# Altium schematic symbol library Resistors.SchLib: 26 symbols
Pins are listed as number, name and electrical type; pins without a type are passive.

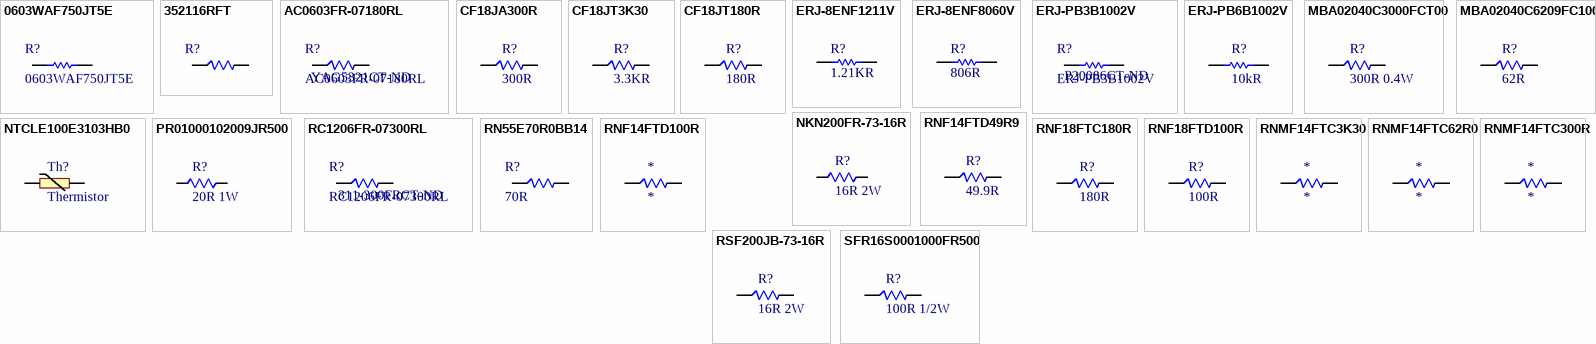
[diagram p0: symbols 0603WAF750JT5E to SFR16S0001000FR500]

## 0603WAF750JT5E
designator R?
±1% ±200ppm/℃ 75Ω 0.1W 0603 Chip Resistor - Surface Mount ROHS; Manufacturer 1: Panasonic; Manufacturer Part Number 1: ERJ-PB3B1002V; Resistance: 10kR; Tolerance: 0.1%; Max Power Dissipation: 200mW; Temperature Coefficient: 50ppm/°C; RoHS: Yes; Category: Chip SMD Resistors; Stock 1: 3; Pricing 1: 1=0.23000, 10=0.19100, 25=0.13920, 50=0.10100, 100=0.07480, 250=0.05744, 500=0.04524, 1000=0.03132 (USD); Case/Package: 0603; Case Code (Metric): 1608; Case Code (Imperial): 0603; Min Operating Temperature: -55°C; Max Operating Temperature: 155°C; Packaging: Tape and Reel; Resistor Type: Thick Film; Number of Terminations: 2; Features: Automotive AEC-Q200; Length: 0.063inch; Width: 0.032inch; Height - Seated (Max): 0.022inch; ComponentLink1URL: https://industrial.panasonic.com/sa/system/files/data/download/catalog/id_fixed-resistors_e_2.pdf?src-supplier=Digi-Key; ComponentLink1Description: https://industrial.panasonic.com/sa/system/files/data/download/catalog/id_fixed-resistors_e_2.pdf?src-supplier=Digi-Key; ComponentLink2URL: https://industrial.panasonic.com/cdbs/www-data/pdf/RDM0000/DMM0000COL5.pdf?src-supplier=Digi-Key; ComponentLink2Description: https://industrial.panasonic.com/cdbs/www-data/pdf/RDM0000/DMM0000COL5.pdf?src-supplier=Digi-Key
footprint FP-AC0603-0_55-MFG
pins: 1, 2

## 352116RFT
designator R?  (value not drawn)
Res Thick Film 2512 16 Ohm 1% 2W ±100ppm/C Pad SMD Automotive T/R; Manufacturer 1: TE Connectivity; Resistance: 16R; Temperature Coefficient: 100ppm/°C; Voltage Rating: 250V; Number of Resistors: 1; Supplier 1: Digi-Key; Manufacturer Part Number 1: 352116RFT; RoHS: Yes; Category: Chip SMD Resistors; Stock 1: 79023; Pricing 1: 1=0.83000, 10=0.61200, 100=0.35610, 1000=0.19972 (USD); Mount: Surface Mount; Case/Package: 2512; Case Code (Metric): 6432; Case Code (Imperial): 2512; Min Operating Temperature: -55°C; Max Operating Temperature: 155°C; Tolerance: 1%; Packaging: Tape and Reel; Resistor Type: Thick Film,Power resistor; Number of Terminations: 2; Power Rating: 2W; Termination: Solder; Voltage Rating (DC): 250V; Technology: THICK FILM; Series: 3521; Resistance Tolerance: 1%; Length: 6.3mm; Height: 0.55mm; Depth: 3.2mm; RoHS Compliant: Yes; REACH SVHC: No SVHC; ELV: Compliant; ComponentLink1URL: https://datasheet.ciiva.com/25610/0900766b81096b90-25610624.pdf?src-supplier=RSComponents; ComponentLink1Description: https://datasheet.ciiva.com/25610/0900766b81096b90-25610624.pdf?src-supplier=RSComponents; ComponentLink2URL: https://datasheet.ciiva.com/46391/1610601-46391497.pdf?src-supplier=Element14; ComponentLink2Description: https://datasheet.ciiva.com/46391/1610601-46391497.pdf?src-supplier=Element14; ComponentLink3URL: https://datasheet.ciiva.com/7657/1610601-7657546.pdf?src-supplier=Element14; ComponentLink3Description: https://datasheet.ciiva.com/7657/1610601-7657546.pdf?src-supplier=Element14; Supplier Part Number 1: A115989CT-ND
footprint FP-ERJ1TR-IPC_A
pins: 1, 2

## AC0603FR-07180RL
designator R?  Supplier Part Number 1: YAG5321CT-ND
Res Thick Film 0603 180 Ohm 1% 0.1W(1/10W) ±100ppm/C Pad SMD Automotive T/R; Manufacturer 1: Yageo; Power Rating: 100mW; Resistance: 180R; Voltage Rating: 50V; Temperature Coefficient: 100ppm/°C; Supplier 1: Digi-Key; Manufacturer Part Number 1: AC0603FR-07180RL; RoHS: Yes; Category: Chip SMD Resistors; Stock 1: 513; Pricing 1: 1=0.10000, 10=0.02900, 100=0.01170, 1000=0.00527, 2500=0.00458 (USD); Case/Package: 0603; Case Code (Imperial): 0603; Case Code (Metric): 1608; Weight: 7.1E-05oz; Min Operating Temperature: -55°C; Max Operating Temperature: 155°C; Packaging: Tape and Reel; Tolerance: 1%; Resistor Type: Thick Film; Number of Terminations: 2; Termination: SMD/SMT; Max Power Dissipation: 100mW; Features: Moisture Resistant,Automotive AEC-Q200; Series: AC; Length: 0.063inch; Width: 0.031inch; Height: 0.022inch; Lead Free: Lead Free; RoHS Compliant: Yes; ComponentLink1URL: https://datasheet.ciiva.com/12576/pyu-ac-51-rohs-l-2-12576606.pdf?src-supplier=Mouser; ComponentLink1Description: https://datasheet.ciiva.com/12576/pyu-ac-51-rohs-l-2-12576606.pdf?src-supplier=Mouser
footprint FP-AC0603-0_55-MFG
pins: 1, 2

## CF18JA300R
designator R?, comment 300R
RES 300 OHM 1/8W 5% AXIAL; Manufacturer 1: Stackpole Electronics; Manufacturer Part Number 1: CF18JA300R; Max Power Dissipation: 125mW; Temperature Coefficient: -400ppm/°C; Supplier 1: Digi-Key; RoHS: Yes; Category: Through-Hole Resistors; Stock 1: 74; Pricing 1: 1=0.10000, 10=0.04500, 25=0.03240, 50=0.02480, 100=0.01830, 250=0.01396, 500=0.01116, 1000=0.00822 (USD); Mount: Through Hole,Axial; Case/Package: Axial; Contact Plating: Tin,Matte; Min Operating Temperature: -55°C; Max Operating Temperature: 155°C; Resistor Type: Carbon Film; Resistance: 300R; Tolerance: 5%; Package Quantity: 5000; Packaging: Tape and Reel; Number of Terminations: 2; Features: Flame Retardant Coating; Diameter: 1.7mm; Length: 0.13inch; Radiation Hardening: No; ComponentLink1URL: https://www.seielect.com/catalog/SEI-CF_CFM.pdf?src-supplier=Avnet; ComponentLink1Description: https://www.seielect.com/catalog/SEI-CF_CFM.pdf?src-supplier=Avnet; ComponentLink2URL: https://www.seielect.com/Catalog/SEI-CF_CFM.pdf?src-supplier=Digi-Key; ComponentLink2Description: https://www.seielect.com/Catalog/SEI-CF_CFM.pdf?src-supplier=Digi-Key
footprint Th300R
pins: 1, 2

## CF18JT3K30
designator R?, comment 3.3KR
RES 3.3K OHM 1/8W 5% AXIAL; Manufacturer 1: Stackpole Electronics; Manufacturer Part Number 1: CFM14JT3K30; Temperature Coefficient: -400ppm/°C; Max Power Dissipation: 250mW; Supplier 1: Digi-Key; Stock 1: 33623; Pricing 1: 1=0.10000, 10=0.04100, 25=0.03000, 50=0.02280, 100=0.01690, 250=0.01288, 500=0.01030, 1000=0.00758 (USD); RoHS: Yes; Mount: Through Hole,Axial; Case/Package: Conformal; Contact Plating: Tin,Matte; Min Operating Temperature: -55°C; Max Operating Temperature: 155°C; Package Quantity: 1; Resistance: 3.3kR; Tolerance: 5%; Packaging: Tape and Reel; Composition: Carbon Film; Number of Terminations: 2; Termination: Axial; Military Standard: Not; Features: Flame Retardant Coating; Diameter: 1.7mm; Length: 3.3mm; Radiation Hardening: No; Supplier Part Number 1: S3.3KQCT-ND; ComponentLink1Description: Digikey; ComponentLink1URL: https://www.digikey.com/en/products/detail/stackpole-electronics-inc/CF18JT3K30/1741665; ComponentLink2Description: Datasheet; ComponentLink2URL: https://www.seielect.com/catalog/sei-cf_cfm.pdf
footprint Th3.3KR
pins: 1, 2

## CF18JT180R
designator R?, comment 180R
RES 180 OHM 1/8W 5% AXIAL; Manufacturer 1: Stackpole Electronics; Manufacturer Part Number 1: CF18JT180R; Temperature Coefficient: -400ppm/°C; Max Power Dissipation: 125mW; Supplier 1: Digi-Key; RoHS: Yes; Category: Through-Hole Resistors; Stock 1: 17216; Pricing 1: 1=0.10000, 10=0.04500, 25=0.03240, 50=0.02480, 100=0.01830, 250=0.01396, 500=0.01116, 1000=0.00822 (USD); Mount: Through Hole,Axial; Case/Package: Conformal; Contact Plating: Tin,Matte; Min Operating Temperature: -55°C; Max Operating Temperature: 155°C; Package Quantity: 1; Resistance: 180R; Tolerance: 5%; Packaging: Tape and Reel; Resistor Type: Carbon Film; Number of Terminations: 2; Termination: Axial; Features: Flame Retardant Coating; Series: CF; Construction: Cylindrical; Diameter: 1.7mm; Length: 3.3mm; Radiation Hardening: No; Military Standard: Not; Lead Free: Lead Free; RoHS Compliant: Yes; ComponentLink1URL: http://components.arrow.com/part/dataview/53468719S47843N1174?src-supplier=Arrow+Electronics; ComponentLink1Description: http://components.arrow.com/part/dataview/53468719S47843N1174?src-supplier=Arrow+Electronics; ComponentLink2URL: https://www.seielect.com/Catalog/SEI-CF_CFM.pdf?src-supplier=Digi-Key; ComponentLink2Description: https://www.seielect.com/Catalog/SEI-CF_CFM.pdf?src-supplier=Digi-Key; ComponentLink3URL: https://www.seielect.com/catalog/SEI-CF_CFM.pdf?src-supplier=Avnet; ComponentLink3Description: https://www.seielect.com/catalog/SEI-CF_CFM.pdf?src-supplier=Avnet
footprint Th3.3KR
pins: 1, 2

## ERJ-8ENF1211V
designator R?, comment 1.21KR
RES 1.21KR 1% 0805 1/4W; Part Number: ERJ-8ENF1211V; Manufacturer: Panasonic
footprint RESC3216X70X50NL05T20 (Chip Resistor, 2-Leads, Body 3.20x1.60mm, IPC Medium Density)
pins: 1, 2
1 alternate drawing of the same symbol

## ERJ-8ENF8060V
designator R?, comment 806R
RES 806R 1% 0805 1/4W; Part Number: ERJ-8ENF8060V; Manufacturer: Panasonic
footprint RESC3216X70X50NL05T20 (Chip Resistor, 2-Leads, Body 3.20x1.60mm, IPC Medium Density)
pins: 1, 2
1 alternate drawing of the same symbol

## ERJ-PB3B1002V
designator R?  Supplier Part Number 1: P20086CT-ND
Res Thick Film 0603 10K Ohm 0.1% 0.2W(1/5W) ±50ppm/°C Pad SMD Automotive T/R; Manufacturer 1: Panasonic; Resistance: 10kR; Max Power Dissipation: 200mW; Supplier 1: Digi-Key; Manufacturer Part Number 1: ERJ-PB3B1002V; RoHS: Yes; Category: Chip SMD Resistors; Stock 1: 3; Pricing 1: 1=0.23000, 10=0.19100, 25=0.13920, 50=0.10100, 100=0.07480, 250=0.05744, 500=0.04524, 1000=0.03132 (USD); Case/Package: 0603; Case Code (Metric): 1608; Case Code (Imperial): 0603; Min Operating Temperature: -55°C; Max Operating Temperature: 155°C; Packaging: Tape and Reel; Resistor Type: Thick Film; Number of Terminations: 2; Tolerance: 0.1%; Temperature Coefficient: 50ppm/°C; Features: Automotive AEC-Q200; Length: 0.063inch; Width: 0.032inch; Height - Seated (Max): 0.022inch; ComponentLink1URL: https://industrial.panasonic.com/sa/system/files/data/download/catalog/id_fixed-resistors_e_2.pdf?src-supplier=Digi-Key; ComponentLink1Description: https://industrial.panasonic.com/sa/system/files/data/download/catalog/id_fixed-resistors_e_2.pdf?src-supplier=Digi-Key; ComponentLink2URL: https://industrial.panasonic.com/cdbs/www-data/pdf/RDM0000/DMM0000COL5.pdf?src-supplier=Digi-Key; ComponentLink2Description: https://industrial.panasonic.com/cdbs/www-data/pdf/RDM0000/DMM0000COL5.pdf?src-supplier=Digi-Key
footprint FP-AC0603-0_55-MFG
pins: 1, 2

## ERJ-PB6B1002V
designator R?, comment 10kR
RES SMD 10K OHM 0.1% 1/4W 0805; Manufacturer 1: Panasonic; Manufacturer Part Number 1: ERJ-PB6B1002V; Max Power Dissipation: 250mW; Temperature Coefficient: 50ppm/°C; Supplier 1: Digi-Key; RoHS: Yes; Category: Chip SMD Resistors; Stock 1: 40490; Pricing 1: 1=0.33000, 10=0.27800, 25=0.20240, 50=0.14680, 100=0.10880, 250=0.08348, 500=0.06578, 1000=0.04554 (USD); Case/Package: 0805; Case Code (Metric): 2012; Case Code (Imperial): 0805; Min Operating Temperature: -55°C; Max Operating Temperature: 155°C; Features: Automotive AEC-Q200; Packaging: Tape and Reel; Resistance: 10kR; Resistor Type: Thick Film; Number of Terminations: 2; Tolerance: 0.1%; Length: 0.079inch; Width: 0.049inch; Height - Seated (Max): 0.028inch; ComponentLink1URL: https://industrial.panasonic.com/sa/system/files/data/download/catalog/id_fixed-resistors_e_2.pdf?src-supplier=Digi-Key; ComponentLink1Description: https://industrial.panasonic.com/sa/system/files/data/download/catalog/id_fixed-resistors_e_2.pdf?src-supplier=Digi-Key; ComponentLink2URL: https://industrial.panasonic.com/cdbs/www-data/pdf/RDM0000/DMM0000COL5.pdf?src-supplier=Digi-Key; ComponentLink2Description: https://industrial.panasonic.com/cdbs/www-data/pdf/RDM0000/DMM0000COL5.pdf?src-supplier=Digi-Key
footprint RESC3216X70X50NL05T20 (Chip Resistor, 2-Leads, Body 3.20x1.60mm, IPC Medium Density)
pins: 1, 2

## MBA02040C3000FCT00
designator R?, comment 300R 0.4W
Resistor 300 Ohm 0.4 W  ±  1 %, MBA02040C3000FCT00, Vishay; Manufacturer 1: Vishay BCcomponents; Tolerance: 1%; Temperature Coefficient: 50ppm/°C; Max Power Dissipation: 400mW; Supplier 1: Digi-Key; Manufacturer Part Number 1: MBA02040C3000FCT00; RoHS: Yes; Category: Through-Hole Resistors; Stock 1: 4691; Pricing 1: 1=0.22000, 10=0.18300, 25=0.13280, 50=0.09620, 100=0.07140, 250=0.05480, 500=0.04316, 1000=0.02988 (USD); Mount: Through Hole; Case/Package: Conformal; Contact Plating: Tin; Min Operating Temperature: -55°C; Max Operating Temperature: 155°C; Resistance: 300R; Resistor Type: Metal Film; Packaging: Tape and Reel; Package Quantity: 5000; Number of Terminations: 2; Termination: Axial; Features: Automotive AEC-Q200; Series: MBA 0204 - Professional; Construction: Cylindrical; Diameter: 1.6mm; Length: 3.6mm; Radiation Hardening: No; Military Standard: Not; Lead Free: Lead Free; RoHS Compliant: Yes; ComponentLink1URL: https://datasheet.ciiva.com/26315/ngmbx-sma-data-e-26315420.pdf?src-supplier=Distrelec; ComponentLink1Description: https://datasheet.ciiva.com/26315/ngmbx-sma-data-e-26315420.pdf?src-supplier=Distrelec
footprint Th300R
pins: 1, 2

## MBA02040C6209FC100
designator R?, comment 62R
Vishay MBA0204 Series Axial Thin Film Resistor 62 1% 0.4W 50ppm/C; Manufacturer 1: Vishay BCcomponents; Manufacturer Part Number 1: MBA02040C6209FC100; Temperature Coefficient: 50ppm/°C; Max Power Dissipation: 400mW; Supplier 1: Digi-Key; RoHS: Yes; Category: Through-Hole Resistors; Stock 1: 1794; Pricing 1: 1=0.40000, 10=0.28600, 100=0.11450 (USD); Mount: Through Hole; Case/Package: Conformal; Contact Plating: Tin; Min Operating Temperature: -55°C; Max Operating Temperature: 155°C; Resistor Type: Thin Film; Resistance: 62R; Tolerance: 1%; Number of Terminations: 2; Termination: Axial; Power Rating: 400mW; Features: Automotive AEC-Q200; Packaging: Tape and Reel; Diameter: 1.6mm; Length: 3.6mm; Radiation Hardening: No; Lead Free: Lead Free; Military Standard: Not; ComponentLink1URL: http://components.arrow.com/part/dataview/0323_04156409?src-supplier=Arrow+Europe; ComponentLink1Description: http://components.arrow.com/part/dataview/0323_04156409?src-supplier=Arrow+Europe; ComponentLink2URL: http://www.vishay.com/docs/28766/28766.pdf?src-supplier=Avnet+Europe; ComponentLink2Description: http://www.vishay.com/docs/28766/28766.pdf?src-supplier=Avnet+Europe; ComponentLink3URL: http://www.vishay.com/docs/28766/28766.pdf?src-supplier=Avnet; ComponentLink3Description: http://www.vishay.com/docs/28766/28766.pdf?src-supplier=Avnet
footprint Th62R
pins: 1, 2

## NKN200FR-73-16R
designator R?, comment 16R 2W
RES 16 OHM 2W 1% AXIAL; Manufacturer 1: Yageo; Manufacturer Part Number 1: NKN200FR-73-16R; Temperature Coefficient: 300ppm/°C; Supplier 1: Digi-Key; RoHS: Yes; Category: Through-Hole Resistors; Case/Package: Axial; Min Operating Temperature: -40°C; Max Operating Temperature: 200°C; Max Power Dissipation: 2W; Resistor Type: Wirewound; Number of Terminations: 2; Features: Flame Retardant Coating; Package Quantity: 1000; Packaging: Tape and Reel; Resistance: 16R; Tolerance: 1%; Length: 0.61inch; ComponentLink1URL: https://media.digikey.com/pdf/Data%20Sheets/Yageo%20PDFs/NKN%20Series.pdf?src-supplier=Digi-Key; ComponentLink1Description: https://media.digikey.com/pdf/Data%20Sheets/Yageo%20PDFs/NKN%20Series.pdf?src-supplier=Digi-Key
footprint TH16R
pins: 1, 2

## NTCLE100E3103HB0
designator Th?, comment Thermistor
Thermistor NTC 10K Ohm 3% 2-Pin Radial 3977K -4.5 to -4 Bulk; Manufacturer 1: Vishay BCcomponents; Manufacturer Part Number 1: NTCLE100E3103HB0; Accuracy: 0.75%; Capacitance: 270pF; Max Voltage Rating (DC): 350V; Max Voltage Rating (AC): 275V; Resistance: 10kR; Max Power Dissipation: 500mW; Clamping Voltage: 710V; Clamping Current: 25A; Energy: 63J; Varistor Voltage: 430V; Lead Diameter: 0.6mm; Supplier 1: Digi-Key; Stock 1: 7006; Pricing 1: 1=0.81000, 5=0.77000, 10=0.67000, 25=0.58880, 50=0.48920, 100=0.41680, 500=0.36240, 1000=0.31710, 5000=0.28086 (USD); RoHS: Yes; Mount: Through Hole; Case/Package: Metal; Number of Pins: 2; Contact Plating: Tin; Min Operating Temperature: -40°C; Max Operating Temperature: 125°C; Packaging: Bulk; Tolerance: 3%; Package Quantity: 500; Termination: Radial; Diameter: 13.5mm; Length: 3.3mm; Height: 9mm; Lead Pitch: 2.54mm; Depth: 3mm; Thickness: 5.4mm; Radiation Hardening: No; REACH SVHC: Unknown; Lead Free: Lead Free; ComponentLink1URL: https://datasheet.ciiva.com/15097/getdatasheetpartid-45305-15097664.pdf?src-supplier=Verical; ComponentLink1Description: https://datasheet.ciiva.com/15097/getdatasheetpartid-45305-15097664.pdf?src-supplier=Verical; ComponentLink2URL: https://datasheet.ciiva.com/16304/ntcle100-16304277.pdf?src-supplier=Future+Electronics; ComponentLink2Description: https://datasheet.ciiva.com/16304/ntcle100-16304277.pdf?src-supplier=Future+Electronics; ComponentLink3URL: https://datasheet.ciiva.com/16635/ntcle100-16635078.pdf?src-supplier=Avnet+Europe; ComponentLink3Description: https://datasheet.ciiva.com/16635/ntcle100-16635078.pdf?src-supplier=Avnet+Europe; ComponentLink4URL: https://datasheet.ciiva.com/16298/ntcle100-16298119.pdf?src-supplier=Future+Electronics; ComponentLink4Description: https://datasheet.ciiva.com/16298/ntcle100-16298119.pdf?src-supplier=Future+Electronics; ComponentLink5URL: https://datasheet.ciiva.com/3280/ntcle100-3280360.pdf?src-supplier=Avnet; ComponentLink5Description: https://datasheet.ciiva.com/3280/ntcle100-3280360.pdf?src-supplier=Avnet; ComponentLink6URL: https://datasheet.ciiva.com/7982/1748909-7982412.pdf?src-supplier=Element14; ComponentLink6Description: https://datasheet.ciiva.com/7982/1748909-7982412.pdf?src-supplier=Element14; ComponentLink7URL: https://datasheet.ciiva.com/2848/ntcle100-2848979.pdf?src-supplier=Digi-Key; ComponentLink7Description: https://datasheet.ciiva.com/2848/ntcle100-2848979.pdf?src-supplier=Digi-Key; ComponentLink8URL: https://datasheet.ciiva.com/12143/ntcle100-222385-12143207.pdf?src-supplier=Mouser; ComponentLink8Description: https://datasheet.ciiva.com/12143/ntcle100-222385-12143207.pdf?src-supplier=Mouser; Supplier Part Number 1: BC2311-ND
footprint Ther10k
pins: 1, 2

## PR01000102009JR500
designator R?, comment 20R 1W
RES 20 OHM 1W 5% AXIAL; Manufacturer 1: Vishay BCcomponents; Manufacturer Part Number 1: PR01000102009JR500; Voltage Rating: 350V; Temperature Coefficient: 250ppm/°C; Lead Diameter: 0.58mm; Supplier 1: Digi-Key; Stock 1: 7979; Pricing 1: 1=0.24000, 10=0.20600, 25=0.14960, 50=0.10840, 100=0.08040, 250=0.06172, 500=0.04862, 1000=0.03366 (USD); RoHS: Yes; Case/Package: Axial; Number of Pins: 2; Contact Plating: Tin; Min Operating Temperature: -55°C; Max Operating Temperature: 155°C; Resistance: 20R; Tolerance: 5%; Power Rating: 1W; Packaging: Tape and Reel; Package Quantity: 1; Composition: Metal Film; Termination: Axial; Number of Terminations: 2; Max Power Dissipation: 1W; Voltage Rating (DC): 350V; Operating Supply Voltage: 350V; Features: Flame Retardant Coating,Automotive AEC-Q200; Diameter: 2.5mm; Length: 8mm; Width: 2.5mm; Radiation Hardening: No; REACH SVHC: Unknown; Lead Free: Lead Free; ComponentLink1URL: http://uk.rs-online.com/webdocs/1410/0900766b8141061e.pdf?src-supplier=RSComponents; ComponentLink1Description: http://uk.rs-online.com/webdocs/1410/0900766b8141061e.pdf?src-supplier=RSComponents; ComponentLink2URL: http://www.farnell.com/datasheets/2049118.pdf?src-supplier=Farnell; ComponentLink2Description: http://www.farnell.com/datasheets/2049118.pdf?src-supplier=Farnell; ComponentLink3URL: http://www.mouser.com/ds/2/427/pr010203-239785.pdf?src-supplier=Mouser; ComponentLink3Description: http://www.mouser.com/ds/2/427/pr010203-239785.pdf?src-supplier=Mouser; ComponentLink4URL: http://www.farnell.com/datasheets/2049118.pdf?src-supplier=Element14; ComponentLink4Description: http://www.farnell.com/datasheets/2049118.pdf?src-supplier=Element14; ComponentLink5URL: http://www.vishay.com/docs/28729/28729.pdf?src-supplier=Avnet; ComponentLink5Description: http://www.vishay.com/docs/28729/28729.pdf?src-supplier=Avnet; ComponentLink6URL: http://www.vishay.com/docs/28729/pr010203.pdf?src-supplier=Digi-Key; ComponentLink6Description: http://www.vishay.com/docs/28729/pr010203.pdf?src-supplier=Digi-Key; ComponentLink7URL: http://www.vishay.com/docs/28729/28729.pdf?src-supplier=Future+Electronics; ComponentLink7Description: http://www.vishay.com/docs/28729/28729.pdf?src-supplier=Future+Electronics; Supplier Part Number 1: PPC20W-1CT-ND
footprint TH20R
pins: 1, 2

## RC1206FR-07300RL
designator R?  Supplier Part Number 1: 311-300FRCT-ND
Res Thick Film 1206 300 Ohm 1% 1/4W +/-100ppm/ßC Molded SMD Paper T/R; Manufacturer 1: Yageo; Resistance: 300R; Power Rating: 250mW; Voltage Rating: 200V; Temperature Coefficient: 100ppm/°C; Supplier 1: Digi-Key; Manufacturer Part Number 1: RC1206FR-07300RL; RoHS: Yes; Category: Chip SMD Resistors; Stock 1: 22; Pricing 1: 1=0.10000, 10=0.07400, 100=0.03010, 1000=0.01353, 2500=0.01174 (USD); Mount: Surface Mount; Case/Package: 1206; Case Code (Metric): 3216; Case Code (Imperial): 1206; Size Code: 1206; Min Operating Temperature: -55°C; Max Operating Temperature: 155°C; Package Quantity: 1; Tolerance: 1%; Packaging: Tape and Reel; Resistor Type: Thick Film; Number of Terminations: 2; Termination: SMD/SMT; Max Power Dissipation: 250mW; Voltage Rating (DC): 200V; Features: Moisture Resistant; Series: RC; Construction: Rectangular; Length: 0.122inch; Width: 0.063inch; Height: 0.026inch; Depth: 1.6mm; Military Standard: Not; Lead Free: Lead Free; RoHS Compliant: Yes; ComponentLink1URL: https://datasheet.ciiva.com/2461/pyu-rc1206-51-rohs-l-4-2461311.pdf?src-supplier=Digi-Key; ComponentLink1Description: https://datasheet.ciiva.com/2461/pyu-rc1206-51-rohs-l-4-2461311.pdf?src-supplier=Digi-Key; ComponentLink2URL: https://datasheet.ciiva.com/2461/pyu-rc1206-51-rohs-l-4-2461312.pdf?src-supplier=Digi-Key; ComponentLink2Description: https://datasheet.ciiva.com/2461/pyu-rc1206-51-rohs-l-4-2461312.pdf?src-supplier=Digi-Key; ComponentLink3URL: https://datasheet.ciiva.com/2461/pyu-rc1206-51-rohs-l-4-2461313.pdf?src-supplier=Digi-Key; ComponentLink3Description: https://datasheet.ciiva.com/2461/pyu-rc1206-51-rohs-l-4-2461313.pdf?src-supplier=Digi-Key; ComponentLink4URL: https://datasheet.ciiva.com/17471/pyu-rc1206-51-rohs-l-4-17471032.pdf?src-supplier=Future+Electronics; ComponentLink4Description: https://datasheet.ciiva.com/17471/pyu-rc1206-51-rohs-l-4-17471032.pdf?src-supplier=Future+Electronics
footprint FP-RC1206-MFG
pins: 1, 2

## RN55E70R0BB14
designator R?, comment 70R
Res Mtlflm CMF-55 70 .1% T-9 RN55E70R0B B14; Manufacturer 1: Vishay Dale; Max Power Dissipation: 125mW; Temperature Coefficient: 25ppm/°C; Tolerance: 0.1%; Supplier 1: Avnet; Manufacturer Part Number 1: RN55E70R0BB14; RoHS: No; Category: Through-Hole Resistors; Pricing 1: 1000=0.27260, 1200=0.38056, 2200=0.37520, 5000=0.31552, 10000=0.30856, 50000=0.30160, 100000=0.29464, 500000=0.28768, 1000000=0.28072 (USD); Case/Package: Axial; Package Quantity: 1000; Resistance: 70R; Packaging: Bulk; Features: Military,Flame Retardant Coating; Resistor Type: Metal Film; Number of Terminations: 2; Length: 0.24inch; Lead Free: Contains Lead; ComponentLink1URL: http://www.vishay.com/docs/31027/cmfmil.pdf?src-supplier=Digi-Key; ComponentLink1Description: http://www.vishay.com/docs/31027/cmfmil.pdf?src-supplier=Digi-Key
footprint Th62R
pins: 1, 2

## RNF14FTD49R9
designator R?, comment 49.9R
RES 49.9 OHM 1/4W 1% AXIAL; Manufacturer 1: Stackpole Electronics; Manufacturer Part Number 1: RNF14FTD49R9; Max Power Dissipation: 250mW; Temperature Coefficient: 100ppm/°C; Supplier 1: Digi-Key; RoHS: Yes; Category: Through-Hole Resistors; Stock 1: 53600; Pricing 1: 1=0.10000, 10=0.06500, 25=0.04480, 50=0.03500, 100=0.02500, 250=0.01952, 500=0.01550, 1000=0.01100 (USD); Mount: Through Hole,Axial; Case/Package: Axial; Contact Plating: Copper,Tin; Min Operating Temperature: -55°C; Max Operating Temperature: 155°C; Package Quantity: 5000; Resistance: 49.9R; Tolerance: 1%; Packaging: Tape and Reel; Resistor Type: Metal Film; Number of Terminations: 2; Features: Flame Retardant Coating; Series: RNF; Diameter: 2.35mm; Length: 0.25inch; Radiation Hardening: No; Lead Free: Lead Free; RoHS Compliant: Yes; ComponentLink1URL: https://www.seielect.com/catalog/SEI-Packaging.pdf?src-supplier=Digi-Key; ComponentLink1Description: https://www.seielect.com/catalog/SEI-Packaging.pdf?src-supplier=Digi-Key; ComponentLink2URL: http://www.seielect.com/Catalog/SEI-RNF_RNMF.pdf?src-supplier=Digi-Key; ComponentLink2Description: http://www.seielect.com/Catalog/SEI-RNF_RNMF.pdf?src-supplier=Digi-Key; ComponentLink3URL: https://www.seielect.com/Catalog/SEI-RNF_RNMF.pdf?src-supplier=Avnet; ComponentLink3Description: https://www.seielect.com/Catalog/SEI-RNF_RNMF.pdf?src-supplier=Avnet
footprint Q Watt (1/8W Thruhole)
pins: 1, 2

## RNF14FTD100R
designator *
RES 100 OHM 1/4W 1% AXIAL; Manufacturer 1: Stackpole Electronics; Manufacturer Part Number 1: RNF14FTD100R; Resistance: 100R; Max Power Dissipation: 250mW; Temperature Coefficient: 100ppm/°C; Working Voltage: 250V; Supplier 1: Digi-Key; RoHS: Yes; Category: Through-Hole Resistors; Stock 1: 121720; Pricing 1: 1=0.10000, 10=0.06500, 25=0.04480, 50=0.03500, 100=0.02500, 250=0.01952, 500=0.01550, 1000=0.01100 (USD); Mount: Through Hole,Axial; Case/Package: Conformal; Contact Plating: Copper,Tin; Min Operating Temperature: -55°C; Max Operating Temperature: 155°C; Tolerance: 1%; Packaging: Tape and Reel; Resistor Type: Metal Film; Number of Terminations: 2; Features: Flame Retardant Coating; Series: RNF; Package Quantity: 5000; Power Rating: 250mW; Termination: Axial; Construction: Cylindrical; Technology: METAL FILM; Diameter: 2.35mm; Length: 6.35mm; Radiation Hardening: No; RoHS Compliant: Yes; Military Standard: Not; Lead Free: Lead Free; ComponentLink1URL: https://datasheet.ciiva.com/19454/2163891-19454777.pdf?src-supplier=Jameco; ComponentLink1Description: https://datasheet.ciiva.com/19454/2163891-19454777.pdf?src-supplier=Jameco
footprint Q Watt (1/8W Thruhole)
pins: 1, 2

## RNF18FTC180R
designator R?, comment 180R
RES 180 OHM 1/8W 1% AXIAL; Manufacturer 1: Stackpole Electronics; Manufacturer Part Number 1: RNF18FTC180R; Max Power Dissipation: 125mW; Temperature Coefficient: 50ppm/°C; Supplier 1: Avnet; RoHS: Yes; Category: Through-Hole Resistors; Pricing 1: 5000=0.01846, 10000=0.01820, 20000=0.01768, 30000=0.01729, 40000=0.01664, 50000=0.01625, 500000=0.01586 (USD); Mount: Through Hole,Axial; Case/Package: Axial; Contact Plating: Copper,Tin; Min Operating Temperature: -55°C; Max Operating Temperature: 155°C; Package Quantity: 5000; Packaging: Tape and Reel; Resistance: 180R; Tolerance: 1%; Resistor Type: Metal Film; Number of Terminations: 2; Features: Flame Retardant Coating; Series: RNF; Diameter: 1.8mm; Length: 0.13inch; Radiation Hardening: No; RoHS Compliant: Yes; ComponentLink1URL: http://www.seielect.com/Catalog/SEI-RNF_RNMF.pdf?src-supplier=Digi-Key; ComponentLink1Description: http://www.seielect.com/Catalog/SEI-RNF_RNMF.pdf?src-supplier=Digi-Key; ComponentLink2URL: https://www.seielect.com/Catalog/SEI-RNF_RNMF.pdf?src-supplier=Avnet; ComponentLink2Description: https://www.seielect.com/Catalog/SEI-RNF_RNMF.pdf?src-supplier=Avnet
footprint Th3.3KR
pins: 1, 2

## RNF18FTD100R
designator R?, comment 100R
RES 100 OHM 1/8W 1% AXIAL; Manufacturer 1: Vishay BCcomponents; Manufacturer Part Number 1: MRS25000C1000FRP00; Power Rating: 600mW; Temperature Coefficient: 50ppm/°C; Voltage Rating: 350V; Lead Diameter: 0.6mm; Supplier 1: Digi-Key; Stock 1: 99591; Pricing 1: 1=0.29000, 10=0.24200, 25=0.17600, 50=0.12760, 100=0.09460, 250=0.07260, 500=0.05720, 1000=0.03960 (USD); RoHS: Yes; Mount: Through Hole; Case/Package: Axial; Number of Pins: 2; Contact Plating: Tin; Min Operating Temperature: -55°C; Max Operating Temperature: 155°C; Resistance: 100R; Tolerance: 1%; Packaging: Tape and Reel; Composition: Metal Film,Thin Film; Termination: Axial; Max Power Dissipation: 600mW; Number of Terminations: 2; Package Quantity: 1; Military Standard: Not; Voltage Rating (DC): 350V; Diameter: 2.5mm; Length: 6.5mm; Width: 2.5mm; Radiation Hardening: No; REACH SVHC: Unknown; Lead Free: Lead Free; Supplier Part Number 1: PPC100ZCT-ND; ComponentLink1Description: Digikey; ComponentLink1URL: https://www.digikey.com/en/products/detail/stackpole-electronics-inc/RNF18FTD100R/1682751; ComponentLink2Description: Datasheet; ComponentLink2URL: https://www.seielect.com/catalog/sei-rnf_rnmf.pdf
footprint Th100R
pins: 1, 2

## RNMF14FTC3K30
designator *
RES 3.3K OHM 1/4W 1% AXIAL; Manufacturer 1: Stackpole Electronics; Manufacturer Part Number 1: RNMF14FTC3K30; Resistance: 3.3kR; Max Power Dissipation: 250mW; Temperature Coefficient: 50ppm/°C; Supplier 1: Digi-Key; RoHS: Yes; Category: Through-Hole Resistors; Stock 1: 29584; Pricing 1: 1=0.10000, 10=0.06500, 25=0.04720, 50=0.03600, 100=0.02660, 250=0.02024, 500=0.01620, 1000=0.01192 (USD); Case/Package: Axial; Min Operating Temperature: -55°C; Max Operating Temperature: 155°C; Package Quantity: 1; Tolerance: 1%; Packaging: Tape and Reel; Resistor Type: Metal Film; Number of Terminations: 2; Features: Flame Retardant Coating; Series: RNMF; Length: 0.13inch; RoHS Compliant: Yes; ComponentLink1URL: https://www.seielect.com/catalog/SEI-Packaging.pdf?src-supplier=Digi-Key; ComponentLink1Description: https://www.seielect.com/catalog/SEI-Packaging.pdf?src-supplier=Digi-Key
footprint Q Watt (1/8W Thruhole)
pins: 1, 2

## RNMF14FTC62R0
designator *
RES 62 OHM 1/4W 1% AXIAL; Manufacturer 1: Stackpole Electronics; Manufacturer Part Number 1: RNMF14FTC62R0; Resistance: 62R; Max Power Dissipation: 250mW; Temperature Coefficient: 50ppm/°C; Supplier 1: Digi-Key; RoHS: Yes; Category: Through-Hole Resistors; Stock 1: 4795; Pricing 1: 1=0.10000, 10=0.06500, 25=0.04720, 50=0.03600, 100=0.02660, 250=0.02024, 500=0.01620, 1000=0.01192 (USD); Case/Package: Axial; Min Operating Temperature: -55°C; Max Operating Temperature: 155°C; Package Quantity: 1; Tolerance: 1%; Packaging: Tape and Reel; Resistor Type: Metal Film; Number of Terminations: 2; Features: Flame Retardant Coating; Series: RNMF; Length: 0.13inch; RoHS Compliant: Yes; ComponentLink1URL: https://www.seielect.com/catalog/SEI-Packaging.pdf?src-supplier=Digi-Key; ComponentLink1Description: https://www.seielect.com/catalog/SEI-Packaging.pdf?src-supplier=Digi-Key
footprint Q Watt (1/8W Thruhole)
pins: 1, 2

## RNMF14FTC300R
designator *
RES 300 OHM 1/4W 1% AXIAL; Manufacturer 1: Stackpole Electronics; Manufacturer Part Number 1: RNMF14FTC300R; Resistance: 300R; Max Power Dissipation: 250mW; Temperature Coefficient: 50ppm/°C; Supplier 1: Digi-Key; RoHS: Yes; Category: Through-Hole Resistors; Stock 1: 2958; Pricing 1: 1=0.10000, 10=0.06500, 25=0.04720, 50=0.03600, 100=0.02660, 250=0.02024, 500=0.01620, 1000=0.01192 (USD); Mount: Through Hole; Case/Package: Axial; Contact Plating: Tin,Matte; Min Operating Temperature: -55°C; Max Operating Temperature: 155°C; Tolerance: 1%; Package Quantity: 1; Packaging: Tape and Reel; Resistor Type: Metal Film; Number of Terminations: 2; Features: Flame Retardant Coating; Series: RNMF; Diameter: 2.35mm; Length: 0.13inch; Radiation Hardening: No; RoHS Compliant: Yes; ComponentLink1URL: http://www.seielect.com/Catalog/SEI-RNF_RNMF.pdf?src-supplier=Avnet; ComponentLink1Description: http://www.seielect.com/Catalog/SEI-RNF_RNMF.pdf?src-supplier=Avnet; ComponentLink2URL: https://www.seielect.com/catalog/SEI-Packaging.pdf?src-supplier=Digi-Key; ComponentLink2Description: https://www.seielect.com/catalog/SEI-Packaging.pdf?src-supplier=Digi-Key
footprint Q Watt (1/8W Thruhole)
pins: 1, 2

## RSF200JB-73-16R
designator R?, comment 16R 2W
RES 16 OHM 2W 5% AXIAL; Manufacturer 1: Yageo; Manufacturer Part Number 1: RSF200JB-73-16R; Supplier 1: Digi-Key; RoHS: Yes; Category: Through-Hole Resistors; Stock 1: 2321; Pricing 1: 1=0.44000, 10=0.31700, 25=0.23440, 50=0.17300, 100=0.12690, 250=0.10484, 500=0.08646, 1000=0.06254, 5000=0.05243 (USD); Case/Package: Axial; Min Operating Temperature: -55°C; Max Operating Temperature: 235°C; Features: Flame Retardant Coating; Max Power Dissipation: 2W; Resistor Type: Metal Oxide; Package Quantity: 100; Number of Terminations: 2; Resistance: 16R; Tolerance: 5%; Packaging: Bulk; Length: 0.61inch; ComponentLink1URL: https://datasheet.ciiva.com/2715/yageolr-rsf-2013-2715284.pdf?src-supplier=Digi-Key; ComponentLink1Description: https://datasheet.ciiva.com/2715/yageolr-rsf-2013-2715284.pdf?src-supplier=Digi-Key
footprint TH16R
pins: 1, 2

## SFR16S0001000FR500
designator R?, comment 100R 1/2W
Res Metal Film 100 Ohm 1% 1/2W 100ppm/C Conformal AXL Thru-Hole T/R; Manufacturer 1: Vishay BCcomponents; Manufacturer Part Number 1: SFR16S0001000FR500; Power Rating: 500mW; Voltage Rating: 200V; Temperature Coefficient: 100ppm/°C; Lead Diameter: 0.45mm; Supplier 1: Digi-Key; RoHS: Yes; Category: Through-Hole Resistors; Stock 1: 3242; Pricing 1: 1=0.19000, 10=0.15700, 25=0.11440, 50=0.08300, 100=0.06150, 250=0.04720, 500=0.03718, 1000=0.02574 (USD); Mount: Through Hole; Case/Package: Axial; Contact Plating: Tin; Min Operating Temperature: -55°C; Max Operating Temperature: 155°C; Resistance: 100R; Tolerance: 1%; Packaging: Cut Tape; Package Quantity: 1; Resistor Type: Metal Film; Number of Terminations: 2; Termination: Axial; Max Power Dissipation: 500mW; Voltage Rating (DC): 200V; Series: SFR16S; Resistance Tolerance: 1%; Diameter: 1.9mm; Length: 0.138inch; Radiation Hardening: No; REACH SVHC: Unknown; Lead Free: Lead Free; RoHS Compliant: Yes; ComponentLink1URL: https://datasheet.ciiva.com/2710/sfr16s25-2710549.pdf?src-supplier=Digi-Key; ComponentLink1Description: https://datasheet.ciiva.com/2710/sfr16s25-2710549.pdf?src-supplier=Digi-Key; ComponentLink2URL: https://datasheet.ciiva.com/16427/sfr16s25-16427365.pdf?src-supplier=Future+Electronics; ComponentLink2Description: https://datasheet.ciiva.com/16427/sfr16s25-16427365.pdf?src-supplier=Future+Electronics; ComponentLink3URL: https://datasheet.ciiva.com/2710/sfr16s25-2710550.pdf?src-supplier=Digi-Key; ComponentLink3Description: https://datasheet.ciiva.com/2710/sfr16s25-2710550.pdf?src-supplier=Digi-Key; ComponentLink4URL: https://datasheet.ciiva.com/28605/1911160-28605898.pdf?src-supplier=Element14; ComponentLink4Description: https://datasheet.ciiva.com/28605/1911160-28605898.pdf?src-supplier=Element14; ComponentLink5URL: https://datasheet.ciiva.com/48523/sfr16s25-48523466.pdf?src-supplier=Avnet; ComponentLink5Description: https://datasheet.ciiva.com/48523/sfr16s25-48523466.pdf?src-supplier=Avnet; ComponentLink6URL: https://datasheet.ciiva.com/8321/sfr16s25-8321901.pdf?src-supplier=Avnet; ComponentLink6Description: https://datasheet.ciiva.com/8321/sfr16s25-8321901.pdf?src-supplier=Avnet
footprint Th100R-12W (1/2W Thruhole)
pins: 1, 2